# Altium schematic symbol library CC2592RGVR.SchLib: 1 symbol
Pins are listed as number, name and electrical type; pins without a type are passive.

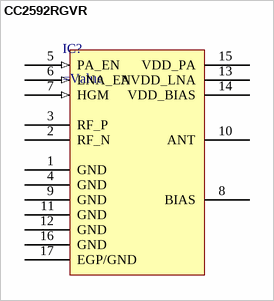
[diagram p0: symbol CC2592RGVR]

## CC2592RGVR
designator IC?
=Description
pins: 1 GND (power), 2 RF_N, 3 RF_P, 4 GND (power), 5 PA_EN (in), 6 LNA_EN (in), 7 HGM (in), 8 BIAS (power), 9 GND (power), 10 ANT (power), 11 GND (power), 12 GND (power), 13 AVDD_LNA (power), 14 VDD_BIAS (power), 15 VDD_PA (power), 16 GND (power), 17 EGP/GND (power)